# EAGLE library part 687140183722 (library Eagle_FPC_CONNECTOR_AND_FFC_CAB (rev18c))
687140183722 WR-FPC 0.50mm SMT Horizontal Bottom Contact - Low Profile <http://katalog.we-online.de/media/images/v2/Family_WR-FPC_6871xx183722.jpg> Details see: http://katalog.we-online.de/en/em/FPC_0_5_SMT_ZIF_HORIZONTAL_BOTTOM_CONTACT_LOW_PROFILE_6871xx183722 Created by Yingchun,shan 2016 (C) Wurth Elektronik
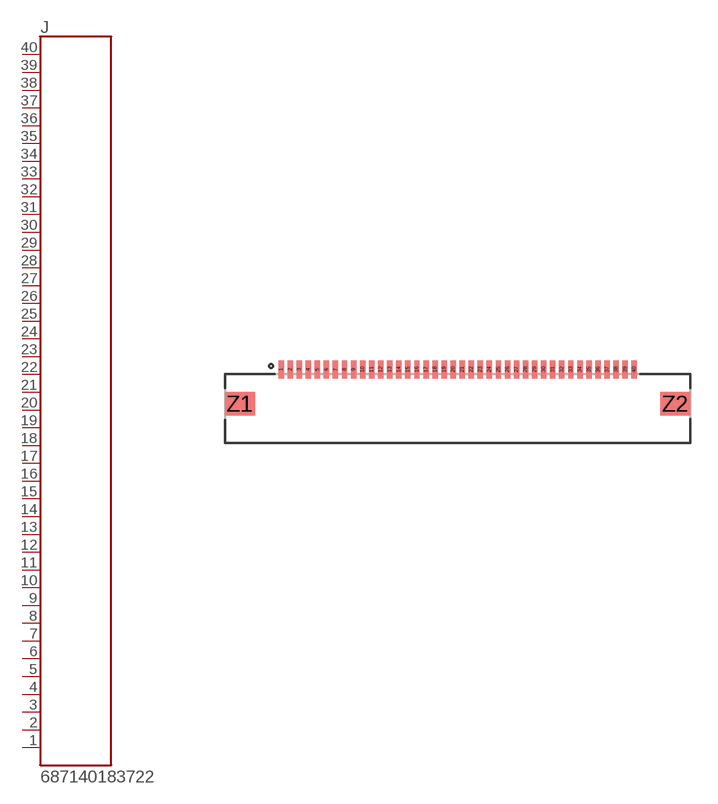
[diagram p212: symbol with the pads of 687140183722; footprint 687140183722]

Designator prefix J

## 687140183722  [687140183722]
1  40  pas
2  39  pas
3  38  pas
4  37  pas
5  36  pas
6  35  pas
7  34  pas
8  33  pas
9  32  pas
10  31  pas
11  30  pas
12  29  pas
13  28  pas
14  27  pas
15  26  pas
16  25  pas
17  24  pas
18  23  pas
19  22  pas
20  21  pas
21  20  pas
22  19  pas
23  18  pas
24  17  pas
25  16  pas
26  15  pas
27  14  pas
28  13  pas
29  12  pas
30  11  pas
31  10  pas
32  9  pas
33  8  pas
34  7  pas
35  6  pas
36  5  pas
37  4  pas
38  3  pas
39  2  pas
40  1  pas

## Footprint 687140183722 (pad centres in mm)
smd 0.3 x 1: 1 -9.75,1.9; 2 -9.25,1.9; 3 -8.75,1.9; 4 -8.25,1.9; 5 -7.75,1.9; 6 -7.25,1.9; 7 -6.75,1.9; 8 -6.25,1.9; 9 -5.75,1.9; 10 -5.25,1.9; 11 -4.75,1.9; 12 -4.25,1.9; 13 -3.75,1.9; 14 -3.25,1.9; 15 -2.75,1.9; 16 -2.25,1.9; 17 -1.75,1.9; 18 -1.25,1.9; 19 -0.75,1.9; 20 -0.25,1.9; 21 0.25,1.9; 22 0.75,1.9; 23 1.25,1.9; 24 1.75,1.9; 25 2.25,1.9; 26 2.75,1.9; 27 3.25,1.9; 28 3.75,1.9; 29 4.25,1.9; 30 4.75,1.9; 31 5.25,1.9; 32 5.75,1.9; 33 6.25,1.9; 34 6.75,1.9; 35 7.25,1.9; 36 7.75,1.9; 37 8.25,1.9; 38 8.75,1.9; 39 9.25,1.9; 40 9.75,1.9
smd 1.65 x 1.3: Z1 -12.025,0; Z2 12.025,0